# EAGLE library part PCF85063A (library maxorig)
PCF85063 - I2C RTC and calendar Low power RTC with calendar and alarm functions. Offset register enables fine-tuning of clock. Clock output for peripherals at a range of frequencies including 1Hz. Integrated oscillator load capacitors. Technical specifications: Uses common 32.768 kHz crystal VCC: 0.9-5.5V Typical current: 0.22uA Clock output frequencies: 32.768 kHz, 16.384 kHz, 8.192 kHz, 4.096 kHz, 2.048 kHz, 1.024 kHz, and 1 Hz
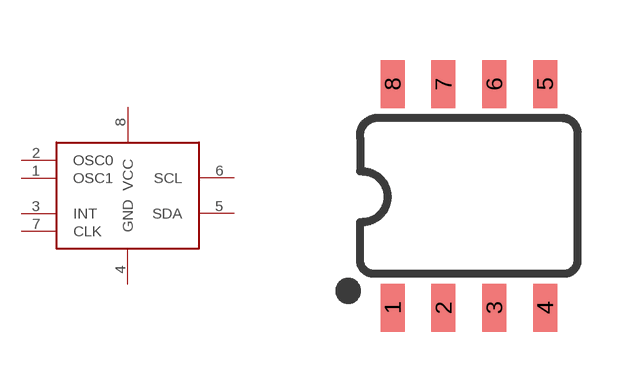
[diagram p20: symbol with the pads of SOIC-08; footprint SOIC-08]

Designator prefix -

## PCF85063ASOIC  [SOIC-08]
1  OSC1
2  OSC0
3  INT
4  GND
5  SDA
6  SCL
7  CLK
8  VCC

## Footprint SOIC-08 (pad centres in mm)
SOIC, 0.15 inch width
smd 0.6 x 1.2: 1 -1.905,-2.8; 2 -0.635,-2.8; 3 0.635,-2.8; 4 1.905,-2.8; 5 1.905,2.8; 6 0.635,2.8; 7 -0.635,2.8; 8 -1.905,2.8